# Altium footprint library Connectors.PcbLib: 80 footprints (part 2 of 5)
Each footprint in its own frame and in the unit in brackets; x right, y up, seen from the top. Pads: shape width x height; smd on the part's side, far side on the other; paste and mask are expansions set on the pad; w line width, h text height; cw(c..) or ccw(c..) is an arc to the next point about the centre after c.
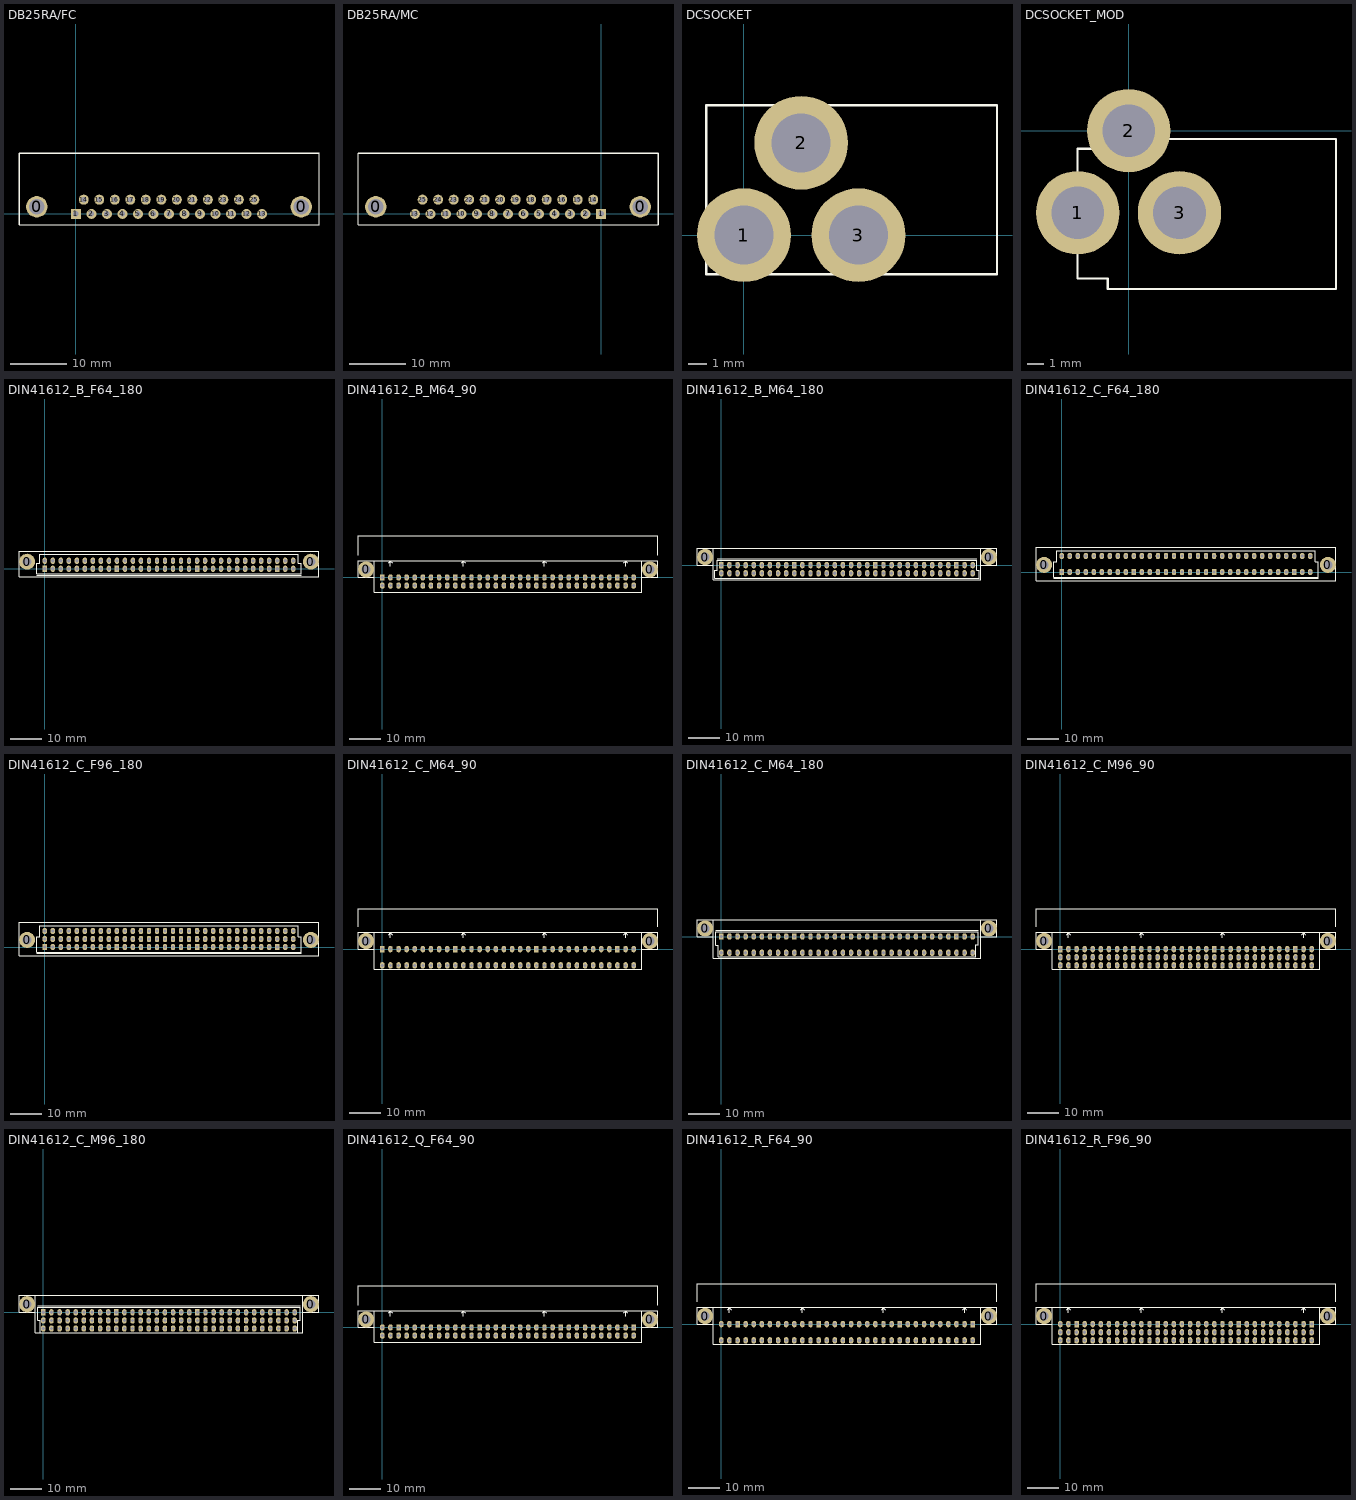
[diagram p1: the footprints below, top view; thin cyan lines are the x and y axes]

## DB25RA/FC [mil]
pads (27):
  round 150 hole 110: 0(-275,50) 0(1583,50)
  rect 70x70 hole 38: 1(0,0)
  round 70 hole 38: 2(109,0) 3(218,0) 4(327,0) 5(436,0) 6(545,0) 7(654,0) 8(763,0) 9(872,0) 10(981,0) 11(1090,0) 12(1199,0) 13(1308,0) 14(55,100) 15(164,100) 16(273,100) 17(382,100) 18(491,100) 19(600,100) 20(709,100) 21(818,100) 22(927,100) 23(1036,100) 24(1145,100) 25(1254,100)
TopOverlay:
  lines w8: -400,-75 1708,-75 1708,425
  lines w10: -400,-75 -400,425 1708,425

## DB25RA/MC [mil]
pads (27):
  round 150 hole 110: 0(-1583,50) 0(275,50)
  rect 70x70 hole 38: 1(0,0)
  round 70 hole 38: 2(-109,0) 3(-218,0) 4(-327,0) 5(-436,0) 6(-545,0) 7(-654,0) 8(-763,0) 9(-872,0) 10(-981,0) 11(-1090,0) 12(-1199,0) 13(-1308,0) 14(-55,100) 15(-164,100) 16(-273,100) 17(-382,100) 18(-491,100) 19(-600,100) 20(-709,100) 21(-818,100) 22(-927,100) 23(-1036,100) 24(-1145,100) 25(-1254,100)
TopOverlay:
  lines w8: -1708,425 -1708,-75 400,-75
  lines w10: -1708,425 400,425 400,-75

## DCSOCKET [mm]
pads (3):
  round 5.08 hole 3.2: 1(0,0) 2(3.1,5) 3(6.2,0)
TopOverlay:
  lines w0.127: -2.048,-2.112 13.7,-2.112 13.7,7.032 -2.048,7.032 -2.048,-2.112

## DCSOCKET_MOD [mm] "DCSOCKET with footprint adjusted relative to the pads"
pads (3):
  round 5.08 hole 3.2: 1(-3.1,-5) 2(0,0) 3(3.1,-5)
TopOverlay:
  lines w0.127: -2.59,-1.1 -1.278,-1.1 ; -2.57,-1.1 -3.118,-1.1 -3.118,-9 -1.27,-9 ; -1.268,-9.01 -1.268,-9.644 12.63,-9.644 12.63,-0.5 -1.268,-0.5 ; -1.268,-1.12 -1.268,-0.518

## DIN41612_B_F64_180 [mm]
pads (66):
  round 5.08 hole 2.794: 0(-5.63,2.24) 0(84.37,2.24)
  rect 1.397x2 hole 1: 1a(0,0) 10a(22.86,0) 20a(48.26,0) 30a(73.66,0)
  oval 1.397x2 hole 1: 1b(0,2.54) 2a(2.54,0) 2b(2.54,2.54) 3a(5.08,0) 3b(5.08,2.54) 4a(7.62,0) 4b(7.62,2.54) 5a(10.16,0) 5b(10.16,2.54) 6a(12.7,0) 6b(12.7,2.54) 7a(15.24,0) 7b(15.24,2.54) 8a(17.78,0) 8b(17.78,2.54) 9a(20.32,0) 9b(20.32,2.54) 10b(22.86,2.54) 11a(25.4,0) 11b(25.4,2.54) 12a(27.94,0) 12b(27.94,2.54) 13a(30.48,0) 13b(30.48,2.54) 14a(33.02,0) 14b(33.02,2.54) 15a(35.56,0) 15b(35.56,2.54) 16a(38.1,0) 16b(38.1,2.54) 17a(40.64,0) 17b(40.64,2.54) 18a(43.18,0) 18b(43.18,2.54) 19a(45.72,0) 19b(45.72,2.54) 20b(48.26,2.54) 21a(50.8,0) 21b(50.8,2.54) 22a(53.34,0) 22b(53.34,2.54) 23a(55.88,0) 23b(55.88,2.54) 24a(58.42,0) 24b(58.42,2.54) 25a(60.96,0) 25b(60.96,2.54) 26a(63.5,0) 26b(63.5,2.54) 27a(66.04,0) 27b(66.04,2.54) 28a(68.58,0) 28b(68.58,2.54) 29a(71.12,0) 29b(71.12,2.54) 30b(73.66,2.54) 31a(76.2,0) 31b(76.2,2.54) 32a(78.74,0) 32b(78.74,2.54)
TopOverlay:
  lines w0.254: -2.54,-2.032 81.28,-2.032 ; -8.128,-2.54 -8.128,5.563 86.868,5.563 86.868,-2.54 -8.128,-2.54 ; -2.54,-1.651 -2.54,1.778 -1.524,1.778 -1.524,4.572 80.264,4.572 80.264,1.778 81.28,1.778 81.28,-1.651 -2.54,-1.651

## DIN41612_B_M64_90 [mm]
pads (66):
  round 5.08 hole 2.794: 0(-5.08,2.54) 0(83.82,2.54)
  rect 1.397x2 hole 1: 1a(0,0) 10a(22.86,0) 20a(48.26,0) 30a(73.66,0)
  oval 1.397x2 hole 1: 1b(0,-2.54) 2a(2.54,0) 2b(2.54,-2.54) 3a(5.08,0) 3b(5.08,-2.54) 4a(7.62,0) 4b(7.62,-2.54) 5a(10.16,0) 5b(10.16,-2.54) 6a(12.7,0) 6b(12.7,-2.54) 7a(15.24,0) 7b(15.24,-2.54) 8a(17.78,0) 8b(17.78,-2.54) 9a(20.32,0) 9b(20.32,-2.54) 10b(22.86,-2.54) 11a(25.4,0) 11b(25.4,-2.54) 12a(27.94,0) 12b(27.94,-2.54) 13a(30.48,0) 13b(30.48,-2.54) 14a(33.02,0) 14b(33.02,-2.54) 15a(35.56,0) 15b(35.56,-2.54) 16a(38.1,0) 16b(38.1,-2.54) 17a(40.64,0) 17b(40.64,-2.54) 18a(43.18,0) 18b(43.18,-2.54) 19a(45.72,0) 19b(45.72,-2.54) 20b(48.26,-2.54) 21a(50.8,0) 21b(50.8,-2.54) 22a(53.34,0) 22b(53.34,-2.54) 23a(55.88,0) 23b(55.88,-2.54) 24a(58.42,0) 24b(58.42,-2.54) 25a(60.96,0) 25b(60.96,-2.54) 26a(63.5,0) 26b(63.5,-2.54) 27a(66.04,0) 27b(66.04,-2.54) 28a(68.58,0) 28b(68.58,-2.54) 29a(71.12,0) 29b(71.12,-2.54) 30b(73.66,-2.54) 31a(76.2,0) 31b(76.2,-2.54) 32a(78.74,0) 32b(78.74,-2.54)
TopOverlay:
  lines w0.254: -7.62,7 -7.62,13 86.36,13 86.36,7 ; -2.54,1.778 -2.54,-4.572 81.28,-4.572 81.28,0 ; 2.032,4.572 2.54,5.08 ; 2.54,3.556 2.54,5.08 ; 3.048,4.572 2.54,5.08 ; 24.892,4.572 25.4,5.08 ; 25.4,3.556 25.4,5.08 ; 25.908,4.572 25.4,5.08 ; 50.292,4.572 50.8,5.08 ; 50.8,3.556 50.8,5.08 ; 51.308,4.572 50.8,5.08 ; 75.692,4.572 76.2,5.08 ; 76.2,3.556 76.2,5.08 ; 76.708,4.572 76.2,5.08 ; -2.54,5.3 -2.54,0 -7.62,0 -7.62,5.3 -2.54,5.3 ; -2.54,5.3 81.28,5.3 ; 81.28,0 81.28,5.3 ; 81.28,0 86.36,0 86.36,5.3 81.28,5.3

## DIN41612_B_M64_180 [mm]
pads (66):
  round 5.08 hole 2.794: 0(-5.08,2.54) 0(83.82,2.54)
  rect 1.397x2 hole 1: 1a(0,0) 10a(22.86,0) 20a(48.26,0) 30a(73.66,0)
  oval 1.397x2 hole 1: 1b(0,-2.54) 2a(2.54,0) 2b(2.54,-2.54) 3a(5.08,0) 3b(5.08,-2.54) 4a(7.62,0) 4b(7.62,-2.54) 5a(10.16,0) 5b(10.16,-2.54) 6a(12.7,0) 6b(12.7,-2.54) 7a(15.24,0) 7b(15.24,-2.54) 8a(17.78,0) 8b(17.78,-2.54) 9a(20.32,0) 9b(20.32,-2.54) 10b(22.86,-2.54) 11a(25.4,0) 11b(25.4,-2.54) 12a(27.94,0) 12b(27.94,-2.54) 13a(30.48,0) 13b(30.48,-2.54) 14a(33.02,0) 14b(33.02,-2.54) 15a(35.56,0) 15b(35.56,-2.54) 16a(38.1,0) 16b(38.1,-2.54) 17a(40.64,0) 17b(40.64,-2.54) 18a(43.18,0) 18b(43.18,-2.54) 19a(45.72,0) 19b(45.72,-2.54) 20b(48.26,-2.54) 21a(50.8,0) 21b(50.8,-2.54) 22a(53.34,0) 22b(53.34,-2.54) 23a(55.88,0) 23b(55.88,-2.54) 24a(58.42,0) 24b(58.42,-2.54) 25a(60.96,0) 25b(60.96,-2.54) 26a(63.5,0) 26b(63.5,-2.54) 27a(66.04,0) 27b(66.04,-2.54) 28a(68.58,0) 28b(68.58,-2.54) 29a(71.12,0) 29b(71.12,-2.54) 30b(73.66,-2.54) 31a(76.2,0) 31b(76.2,-2.54) 32a(78.74,0) 32b(78.74,-2.54)
TopOverlay:
  lines w0.254: -2.54,1.778 -2.54,-4.572 81.28,-4.572 81.28,0 ; -1.27,2.032 80.01,2.032 ; -2.54,5.3 -2.54,0 -7.62,0 -7.62,5.3 -2.54,5.3 ; -2.54,5.3 81.28,5.3 ; 81.28,0 81.28,5.3 ; 81.28,0 86.36,0 86.36,5.3 81.28,5.3 ; -2.032,-4.064 -2.032,-1.524 -1.27,-1.524 -1.27,1.524 14.732,1.524 29.718,1.524 79.502,1.524 80.01,1.524 80.01,-1.524 80.772,-1.524 80.772,-4.064 29.718,-4.064 14.986,-4.064 -2.032,-4.064

## DIN41612_C_F64_180 [mm]
pads (66):
  round 5.08 hole 2.794: 0(-5.63,2.24) 0(84.37,2.24)
  rect 1.397x2 hole 1: 1a(0,0) 10a(22.86,0) 20a(48.26,0) 30a(73.66,0)
  oval 1.397x2 hole 1: 1c(0,5.08) 2a(2.54,0) 2c(2.54,5.08) 3a(5.08,0) 3c(5.08,5.08) 4a(7.62,0) 4c(7.62,5.08) 5a(10.16,0) 5c(10.16,5.08) 6a(12.7,0) 6c(12.7,5.08) 7a(15.24,0) 7c(15.24,5.08) 8a(17.78,0) 8c(17.78,5.08) 9a(20.32,0) 9c(20.32,5.08) 10c(22.86,5.08) 11a(25.4,0) 11c(25.4,5.08) 12a(27.94,0) 12c(27.94,5.08) 13a(30.48,0) 13c(30.48,5.08) 14a(33.02,0) 14c(33.02,5.08) 15a(35.56,0) 15c(35.56,5.08) 16a(38.1,0) 16c(38.1,5.08) 17a(40.64,0) 17c(40.64,5.08) 18a(43.18,0) 18c(43.18,5.08) 19a(45.72,0) 19c(45.72,5.08) 20c(48.26,5.08) 21a(50.8,0) 21c(50.8,5.08) 22a(53.34,0) 22c(53.34,5.08) 23a(55.88,0) 23c(55.88,5.08) 24a(58.42,0) 24c(58.42,5.08) 25a(60.96,0) 25c(60.96,5.08) 26a(63.5,0) 26c(63.5,5.08) 27a(66.04,0) 27c(66.04,5.08) 28a(68.58,0) 28c(68.58,5.08) 29a(71.12,0) 29c(71.12,5.08) 30c(73.66,5.08) 31a(76.2,0) 31c(76.2,5.08) 32a(78.74,0) 32c(78.74,5.08)
TopOverlay:
  lines w0.254: -2.54,-2.032 81.28,-2.032 ; -8.128,-2.794 -8.128,7.874 86.868,7.874 86.868,-2.794 -8.128,-2.794 ; -2.54,-1.651 -2.54,3.302 -1.651,3.302 -1.651,6.731 80.391,6.731 80.391,3.302 81.28,3.302 81.28,-1.651 -2.54,-1.651

## DIN41612_C_F96_180 [mm]
pads (98):
  round 5.08 hole 2.794: 0(-5.63,2.24) 0(84.37,2.24)
  rect 1.397x2 hole 1: 1a(0,0) 10a(22.86,0) 20a(48.26,0) 30a(73.66,0)
  oval 1.397x2 hole 1: 1b(0,2.54) 1c(0,5.08) 2a(2.54,0) 2b(2.54,2.54) 2c(2.54,5.08) 3a(5.08,0) 3b(5.08,2.54) 3c(5.08,5.08) 4a(7.62,0) 4b(7.62,2.54) 4c(7.62,5.08) 5a(10.16,0) 5b(10.16,2.54) 5c(10.16,5.08) 6a(12.7,0) 6b(12.7,2.54) 6c(12.7,5.08) 7a(15.24,0) 7b(15.24,2.54) 7c(15.24,5.08) 8a(17.78,0) 8b(17.78,2.54) 8c(17.78,5.08) 9a(20.32,0) 9b(20.32,2.54) 9c(20.32,5.08) 10b(22.86,2.54) 10c(22.86,5.08) 11a(25.4,0) 11b(25.4,2.54) 11c(25.4,5.08) 12a(27.94,0) 12b(27.94,2.54) 12c(27.94,5.08) 13a(30.48,0) 13b(30.48,2.54) 13c(30.48,5.08) 14a(33.02,0) 14b(33.02,2.54) 14c(33.02,5.08) 15a(35.56,0) 15b(35.56,2.54) 15c(35.56,5.08) 16a(38.1,0) 16b(38.1,2.54) 16c(38.1,5.08) 17a(40.64,0) 17b(40.64,2.54) 17c(40.64,5.08) 18a(43.18,0) 18b(43.18,2.54) 18c(43.18,5.08) 19a(45.72,0) 19b(45.72,2.54) 19c(45.72,5.08) 20b(48.26,2.54) 20c(48.26,5.08) 21a(50.8,0) 21b(50.8,2.54) 21c(50.8,5.08) 22a(53.34,0) 22b(53.34,2.54) 22c(53.34,5.08) 23a(55.88,0) 23b(55.88,2.54) 23c(55.88,5.08) 24a(58.42,0) 24b(58.42,2.54) 24c(58.42,5.08) 25a(60.96,0) 25b(60.96,2.54) 25c(60.96,5.08) 26a(63.5,0) 26b(63.5,2.54) 26c(63.5,5.08) 27a(66.04,0) 27b(66.04,2.54) 27c(66.04,5.08) 28a(68.58,0) 28b(68.58,2.54) 28c(68.58,5.08) 29a(71.12,0) 29b(71.12,2.54) 29c(71.12,5.08) 30b(73.66,2.54) 30c(73.66,5.08) 31a(76.2,0) 31b(76.2,2.54) 31c(76.2,5.08) 32a(78.74,0) 32b(78.74,2.54) 32c(78.74,5.08)
TopOverlay:
  lines w0.254: -2.54,-2.032 81.28,-2.032 ; -8.128,-2.794 86.868,-2.794 86.868,7.874 -8.128,7.874 -8.128,-2.794 ; -2.54,-1.651 81.28,-1.651 81.28,3.302 80.391,3.302 80.391,6.731 -1.651,6.731 -1.651,3.302 -2.54,3.302 -2.54,-1.651

## DIN41612_C_M64_90 [mm]
pads (66):
  round 5.08 hole 2.794: 0(-5.08,2.54) 0(83.82,2.54)
  rect 1.397x2 hole 1: 1a(0,0) 10a(22.86,0) 20a(48.26,0) 30a(73.66,0)
  oval 1.397x2 hole 1: 1c(0,-5.08) 2a(2.54,0) 2c(2.54,-5.08) 3a(5.08,0) 3c(5.08,-5.08) 4a(7.62,0) 4c(7.62,-5.08) 5a(10.16,0) 5c(10.16,-5.08) 6a(12.7,0) 6c(12.7,-5.08) 7a(15.24,0) 7c(15.24,-5.08) 8a(17.78,0) 8c(17.78,-5.08) 9a(20.32,0) 9c(20.32,-5.08) 10c(22.86,-5.08) 11a(25.4,0) 11c(25.4,-5.08) 12a(27.94,0) 12c(27.94,-5.08) 13a(30.48,0) 13c(30.48,-5.08) 14a(33.02,0) 14c(33.02,-5.08) 15a(35.56,0) 15c(35.56,-5.08) 16a(38.1,0) 16c(38.1,-5.08) 17a(40.64,0) 17c(40.64,-5.08) 18a(43.18,0) 18c(43.18,-5.08) 19a(45.72,0) 19c(45.72,-5.08) 20c(48.26,-5.08) 21a(50.8,0) 21c(50.8,-5.08) 22a(53.34,0) 22c(53.34,-5.08) 23a(55.88,0) 23c(55.88,-5.08) 24a(58.42,0) 24c(58.42,-5.08) 25a(60.96,0) 25c(60.96,-5.08) 26a(63.5,0) 26c(63.5,-5.08) 27a(66.04,0) 27c(66.04,-5.08) 28a(68.58,0) 28c(68.58,-5.08) 29a(71.12,0) 29c(71.12,-5.08) 30c(73.66,-5.08) 31a(76.2,0) 31c(76.2,-5.08) 32a(78.74,0) 32c(78.74,-5.08)
TopOverlay:
  lines w0.254: -7.62,7 -7.62,12.7 86.36,12.7 86.36,7 ; 2.032,4.572 2.54,5.08 ; 2.54,3.556 2.54,5.08 ; 3.048,4.572 2.54,5.08 ; 24.892,4.572 25.4,5.08 ; 25.4,3.556 25.4,5.08 ; 25.908,4.572 25.4,5.08 ; 50.292,4.572 50.8,5.08 ; 50.8,3.556 50.8,5.08 ; 51.308,4.572 50.8,5.08 ; 75.692,4.572 76.2,5.08 ; 76.2,3.556 76.2,5.08 ; 76.708,4.572 76.2,5.08 ; -2.54,0 -2.54,-6.35 81.28,-6.35 81.28,0 ; -2.54,0 -2.54,5.3 ; -2.54,0 -7.62,0 -7.62,5.3 -5.08,5.3 -2.54,5.3 ; -2.54,5.3 81.28,5.3 ; 81.28,0 81.28,5.3 ; 81.28,0 86.36,0 86.36,5.3 83.82,5.3 81.28,5.3

## DIN41612_C_M64_180 [mm]
pads (66):
  round 5.08 hole 2.794: 0(-5.08,2.54) 0(83.82,2.54)
  rect 1.397x2 hole 1: 1a(0,0) 10a(22.86,0) 20a(48.26,0) 30a(73.66,0)
  oval 1.397x2 hole 1: 1c(0,-5.08) 2a(2.54,0) 2c(2.54,-5.08) 3a(5.08,0) 3c(5.08,-5.08) 4a(7.62,0) 4c(7.62,-5.08) 5a(10.16,0) 5c(10.16,-5.08) 6a(12.7,0) 6c(12.7,-5.08) 7a(15.24,0) 7c(15.24,-5.08) 8a(17.78,0) 8c(17.78,-5.08) 9a(20.32,0) 9c(20.32,-5.08) 10c(22.86,-5.08) 11a(25.4,0) 11c(25.4,-5.08) 12a(27.94,0) 12c(27.94,-5.08) 13a(30.48,0) 13c(30.48,-5.08) 14a(33.02,0) 14c(33.02,-5.08) 15a(35.56,0) 15c(35.56,-5.08) 16a(38.1,0) 16c(38.1,-5.08) 17a(40.64,0) 17c(40.64,-5.08) 18a(43.18,0) 18c(43.18,-5.08) 19a(45.72,0) 19c(45.72,-5.08) 20c(48.26,-5.08) 21a(50.8,0) 21c(50.8,-5.08) 22a(53.34,0) 22c(53.34,-5.08) 23a(55.88,0) 23c(55.88,-5.08) 24a(58.42,0) 24c(58.42,-5.08) 25a(60.96,0) 25c(60.96,-5.08) 26a(63.5,0) 26c(63.5,-5.08) 27a(66.04,0) 27c(66.04,-5.08) 28a(68.58,0) 28c(68.58,-5.08) 29a(71.12,0) 29c(71.12,-5.08) 30c(73.66,-5.08) 31a(76.2,0) 31c(76.2,-5.08) 32a(78.74,0) 32c(78.74,-5.08)
TopOverlay:
  lines w0.254: -1.778,2.032 80.518,2.032 ; -2.54,0 -7.62,0 -7.62,5.3 -5.08,5.3 -2.54,5.3 ; -2.54,0 -2.54,5.3 ; -2.54,0 -2.54,-6.858 81.28,-6.858 81.28,0 ; -2.54,5.3 81.28,5.3 ; 81.28,0 86.36,0 86.36,5.3 83.82,5.3 81.28,5.3 ; 81.28,0 81.28,5.3 ; -1.778,-2.794 -1.778,1.524 80.518,1.524 80.518,1.27 80.518,-2.54 79.756,-2.54 79.756,-6.35 -1.016,-6.35 -1.016,-2.794 -1.778,-2.794

## DIN41612_C_M96_90 [mm]
pads (98):
  round 5.08 hole 2.794: 0(-5.08,2.54) 0(83.82,2.54)
  rect 1.397x2 hole 1: 1a(0,0) 10a(22.86,0) 20a(48.26,0) 30a(73.66,0)
  oval 1.397x2 hole 1: 1b(0,-2.54) 1c(0,-5.08) 2a(2.54,0) 2b(2.54,-2.54) 2c(2.54,-5.08) 3a(5.08,0) 3b(5.08,-2.54) 3c(5.08,-5.08) 4a(7.62,0) 4b(7.62,-2.54) 4c(7.62,-5.08) 5a(10.16,0) 5b(10.16,-2.54) 5c(10.16,-5.08) 6a(12.7,0) 6b(12.7,-2.54) 6c(12.7,-5.08) 7a(15.24,0) 7b(15.24,-2.54) 7c(15.24,-5.08) 8a(17.78,0) 8b(17.78,-2.54) 8c(17.78,-5.08) 9a(20.32,0) 9b(20.32,-2.54) 9c(20.32,-5.08) 10b(22.86,-2.54) 10c(22.86,-5.08) 11a(25.4,0) 11b(25.4,-2.54) 11c(25.4,-5.08) 12a(27.94,0) 12b(27.94,-2.54) 12c(27.94,-5.08) 13a(30.48,0) 13b(30.48,-2.54) 13c(30.48,-5.08) 14a(33.02,0) 14b(33.02,-2.54) 14c(33.02,-5.08) 15a(35.56,0) 15b(35.56,-2.54) 15c(35.56,-5.08) 16a(38.1,0) 16b(38.1,-2.54) 16c(38.1,-5.08) 17a(40.64,0) 17b(40.64,-2.54) 17c(40.64,-5.08) 18a(43.18,0) 18b(43.18,-2.54) 18c(43.18,-5.08) 19a(45.72,0) 19b(45.72,-2.54) 19c(45.72,-5.08) 20b(48.26,-2.54) 20c(48.26,-5.08) 21a(50.8,0) 21b(50.8,-2.54) 21c(50.8,-5.08) 22a(53.34,0) 22b(53.34,-2.54) 22c(53.34,-5.08) 23a(55.88,0) 23b(55.88,-2.54) 23c(55.88,-5.08) 24a(58.42,0) 24b(58.42,-2.54) 24c(58.42,-5.08) 25a(60.96,0) 25b(60.96,-2.54) 25c(60.96,-5.08) 26a(63.5,0) 26b(63.5,-2.54) 26c(63.5,-5.08) 27a(66.04,0) 27b(66.04,-2.54) 27c(66.04,-5.08) 28a(68.58,0) 28b(68.58,-2.54) 28c(68.58,-5.08) 29a(71.12,0) 29b(71.12,-2.54) 29c(71.12,-5.08) 30b(73.66,-2.54) 30c(73.66,-5.08) 31a(76.2,0) 31b(76.2,-2.54) 31c(76.2,-5.08) 32a(78.74,0) 32b(78.74,-2.54) 32c(78.74,-5.08)
TopOverlay:
  lines w0.254: -7.62,7 -7.62,12.7 86.36,12.7 86.36,7 ; 2.032,4.572 2.54,5.08 ; 2.54,3.556 2.54,5.08 ; 3.048,4.572 2.54,5.08 ; 24.892,4.572 25.4,5.08 ; 25.4,3.556 25.4,5.08 ; 25.908,4.572 25.4,5.08 ; 50.292,4.572 50.8,5.08 ; 50.8,3.556 50.8,5.08 ; 51.308,4.572 50.8,5.08 ; 75.692,4.572 76.2,5.08 ; 76.2,3.556 76.2,5.08 ; 76.708,4.572 76.2,5.08 ; -2.54,0 -7.62,0 -7.62,5.3 -5.08,5.3 -2.54,5.3 ; -2.54,0 -2.54,5.3 ; -2.54,0 -2.54,-6.35 81.28,-6.35 81.28,0 ; -2.54,5.3 81.28,5.3 ; 81.28,0 86.36,0 86.36,5.3 83.82,5.3 81.28,5.3 ; 81.28,0 81.28,5.3

## DIN41612_C_M96_180 [mm]
pads (98):
  round 5.08 hole 2.794: 0(-5.08,2.54) 0(83.82,2.54)
  rect 1.397x2 hole 1: 1a(0,0) 10a(22.86,0) 20a(48.26,0) 30a(73.66,0)
  oval 1.397x2 hole 1: 1b(0,-2.54) 1c(0,-5.08) 2a(2.54,0) 2b(2.54,-2.54) 2c(2.54,-5.08) 3a(5.08,0) 3b(5.08,-2.54) 3c(5.08,-5.08) 4a(7.62,0) 4b(7.62,-2.54) 4c(7.62,-5.08) 5a(10.16,0) 5b(10.16,-2.54) 5c(10.16,-5.08) 6a(12.7,0) 6b(12.7,-2.54) 6c(12.7,-5.08) 7a(15.24,0) 7b(15.24,-2.54) 7c(15.24,-5.08) 8a(17.78,0) 8b(17.78,-2.54) 8c(17.78,-5.08) 9a(20.32,0) 9b(20.32,-2.54) 9c(20.32,-5.08) 10b(22.86,-2.54) 10c(22.86,-5.08) 11a(25.4,0) 11b(25.4,-2.54) 11c(25.4,-5.08) 12a(27.94,0) 12b(27.94,-2.54) 12c(27.94,-5.08) 13a(30.48,0) 13b(30.48,-2.54) 13c(30.48,-5.08) 14a(33.02,0) 14b(33.02,-2.54) 14c(33.02,-5.08) 15a(35.56,0) 15b(35.56,-2.54) 15c(35.56,-5.08) 16a(38.1,0) 16b(38.1,-2.54) 16c(38.1,-5.08) 17a(40.64,0) 17b(40.64,-2.54) 17c(40.64,-5.08) 18a(43.18,0) 18b(43.18,-2.54) 18c(43.18,-5.08) 19a(45.72,0) 19b(45.72,-2.54) 19c(45.72,-5.08) 20b(48.26,-2.54) 20c(48.26,-5.08) 21a(50.8,0) 21b(50.8,-2.54) 21c(50.8,-5.08) 22a(53.34,0) 22b(53.34,-2.54) 22c(53.34,-5.08) 23a(55.88,0) 23b(55.88,-2.54) 23c(55.88,-5.08) 24a(58.42,0) 24b(58.42,-2.54) 24c(58.42,-5.08) 25a(60.96,0) 25b(60.96,-2.54) 25c(60.96,-5.08) 26a(63.5,0) 26b(63.5,-2.54) 26c(63.5,-5.08) 27a(66.04,0) 27b(66.04,-2.54) 27c(66.04,-5.08) 28a(68.58,0) 28b(68.58,-2.54) 28c(68.58,-5.08) 29a(71.12,0) 29b(71.12,-2.54) 29c(71.12,-5.08) 30b(73.66,-2.54) 30c(73.66,-5.08) 31a(76.2,0) 31b(76.2,-2.54) 31c(76.2,-5.08) 32a(78.74,0) 32b(78.74,-2.54) 32c(78.74,-5.08)
TopOverlay:
  lines w0.254: -1.778,2.032 80.518,2.032 ; -1.016,-6.35 -1.016,-2.54 -1.778,-2.54 -1.778,1.524 80.518,1.524 80.518,-2.54 79.756,-2.54 79.756,-6.35 ; -2.54,0 -7.62,0 -7.62,5.3 -5.08,5.3 -2.54,5.3 ; -2.54,0 -2.54,5.3 ; -2.54,0 -2.54,-6.35 81.28,-6.35 81.28,0 ; -2.54,5.3 81.28,5.3 ; 81.28,0 86.36,0 86.36,5.3 83.82,5.3 81.28,5.3 ; 81.28,0 81.28,5.3

## DIN41612_Q_F64_90 [mm]
pads (66):
  round 5.08 hole 2.794: 0(-5.08,2.54) 0(83.82,2.54)
  rect 1.397x2 hole 1: 1a(78.74,0) 10a(55.88,0) 20a(30.48,0) 30a(5.08,0)
  oval 1.397x2 hole 1: 1b(78.74,-2.54) 2a(76.2,0) 2b(76.2,-2.54) 3a(73.66,0) 3b(73.66,-2.54) 4a(71.12,0) 4b(71.12,-2.54) 5a(68.58,0) 5b(68.58,-2.54) 6a(66.04,0) 6b(66.04,-2.54) 7a(63.5,0) 7b(63.5,-2.54) 8a(60.96,0) 8b(60.96,-2.54) 9a(58.42,0) 9b(58.42,-2.54) 10b(55.88,-2.54) 11a(53.34,0) 11b(53.34,-2.54) 12a(50.8,0) 12b(50.8,-2.54) 13a(48.26,0) 13b(48.26,-2.54) 14a(45.72,0) 14b(45.72,-2.54) 15a(43.18,0) 15b(43.18,-2.54) 16a(40.64,0) 16b(40.64,-2.54) 17a(38.1,0) 17b(38.1,-2.54) 18a(35.56,0) 18b(35.56,-2.54) 19a(33.02,0) 19b(33.02,-2.54) 20b(30.48,-2.54) 21a(27.94,0) 21b(27.94,-2.54) 22a(25.4,0) 22b(25.4,-2.54) 23a(22.86,0) 23b(22.86,-2.54) 24a(20.32,0) 24b(20.32,-2.54) 25a(17.78,0) 25b(17.78,-2.54) 26a(15.24,0) 26b(15.24,-2.54) 27a(12.7,0) 27b(12.7,-2.54) 28a(10.16,0) 28b(10.16,-2.54) 29a(7.62,0) 29b(7.62,-2.54) 30b(5.08,-2.54) 31a(2.54,0) 31b(2.54,-2.54) 32a(0,0) 32b(0,-2.54)
TopOverlay:
  lines w0.254: -7.62,7 -7.62,13 86.36,13 86.36,7 ; -2.54,1.778 -2.54,-4.572 81.28,-4.572 81.28,0 ; 2.032,4.572 2.54,5.08 ; 2.54,3.556 2.54,5.08 ; 3.048,4.572 2.54,5.08 ; 24.892,4.572 25.4,5.08 ; 25.4,3.556 25.4,5.08 ; 25.908,4.572 25.4,5.08 ; 50.292,4.572 50.8,5.08 ; 50.8,3.556 50.8,5.08 ; 51.308,4.572 50.8,5.08 ; 75.692,4.572 76.2,5.08 ; 76.2,3.556 76.2,5.08 ; 76.708,4.572 76.2,5.08 ; -2.54,5.3 81.28,5.3 ; -2.54,5.3 -7.62,5.3 -7.62,0 -2.54,0 -2.54,5.3 ; 81.28,0 86.36,0 86.36,5.3 81.28,5.3 ; 81.28,0 81.28,5.3

## DIN41612_R_F64_90 [mm]
pads (66):
  round 5.08 hole 2.794: 0(-5.08,2.54) 0(83.82,2.54)
  rect 1.397x2 hole 1: 1a(78.74,0) 10a(55.88,0) 20a(30.48,0) 30a(5.08,0)
  oval 1.397x2 hole 1: 1c(78.74,-5.08) 2a(76.2,0) 2c(76.2,-5.08) 3a(73.66,0) 3c(73.66,-5.08) 4a(71.12,0) 4c(71.12,-5.08) 5a(68.58,0) 5c(68.58,-5.08) 6a(66.04,0) 6c(66.04,-5.08) 7a(63.5,0) 7c(63.5,-5.08) 8a(60.96,0) 8c(60.96,-5.08) 9a(58.42,0) 9c(58.42,-5.08) 10c(55.88,-5.08) 11a(53.34,0) 11c(53.34,-5.08) 12a(50.8,0) 12c(50.8,-5.08) 13a(48.26,0) 13c(48.26,-5.08) 14a(45.72,0) 14c(45.72,-5.08) 15a(43.18,0) 15c(43.18,-5.08) 16a(40.64,0) 16c(40.64,-5.08) 17a(38.1,0) 17c(38.1,-5.08) 18a(35.56,0) 18c(35.56,-5.08) 19a(33.02,0) 19c(33.02,-5.08) 20c(30.48,-5.08) 21a(27.94,0) 21c(27.94,-5.08) 22a(25.4,0) 22c(25.4,-5.08) 23a(22.86,0) 23c(22.86,-5.08) 24a(20.32,0) 24c(20.32,-5.08) 25a(17.78,0) 25c(17.78,-5.08) 26a(15.24,0) 26c(15.24,-5.08) 27a(12.7,0) 27c(12.7,-5.08) 28a(10.16,0) 28c(10.16,-5.08) 29a(7.62,0) 29c(7.62,-5.08) 30c(5.08,-5.08) 31a(2.54,0) 31c(2.54,-5.08) 32a(0,0) 32c(0,-5.08)
TopOverlay:
  lines w0.254: -7.62,7 -7.62,12.7 86.36,12.7 86.36,7 ; 2.032,4.572 2.54,5.08 ; 2.54,3.556 2.54,5.08 ; 3.048,4.572 2.54,5.08 ; 24.892,4.572 25.4,5.08 ; 25.4,3.556 25.4,5.08 ; 25.908,4.572 25.4,5.08 ; 50.292,4.572 50.8,5.08 ; 50.8,3.556 50.8,5.08 ; 51.308,4.572 50.8,5.08 ; 75.692,4.572 76.2,5.08 ; 76.2,3.556 76.2,5.08 ; 76.708,4.572 76.2,5.08 ; -2.54,0 -7.62,0 -7.62,5.3 -5.08,5.3 -2.54,5.3 ; -2.54,0 -2.54,5.3 ; -2.54,0 -2.54,-6.35 81.28,-6.35 81.28,0 ; -2.54,5.3 81.28,5.3 ; 81.28,0 86.36,0 86.36,5.3 83.82,5.3 81.28,5.3 ; 81.28,0 81.28,5.3

## DIN41612_R_F96_90 [mm]
pads (98):
  round 5.08 hole 2.794: 0(-5.08,2.54) 0(83.82,2.54)
  rect 1.397x2 hole 1: 1a(78.74,0) 10a(55.88,0) 20a(30.48,0) 30a(5.08,0)
  oval 1.397x2 hole 1: 1b(78.74,-2.54) 1c(78.74,-5.08) 2a(76.2,0) 2b(76.2,-2.54) 2c(76.2,-5.08) 3a(73.66,0) 3b(73.66,-2.54) 3c(73.66,-5.08) 4a(71.12,0) 4b(71.12,-2.54) 4c(71.12,-5.08) 5a(68.58,0) 5b(68.58,-2.54) 5c(68.58,-5.08) 6a(66.04,0) 6b(66.04,-2.54) 6c(66.04,-5.08) 7a(63.5,0) 7b(63.5,-2.54) 7c(63.5,-5.08) 8a(60.96,0) 8b(60.96,-2.54) 8c(60.96,-5.08) 9a(58.42,0) 9b(58.42,-2.54) 9c(58.42,-5.08) 10b(55.88,-2.54) 10c(55.88,-5.08) 11a(53.34,0) 11b(53.34,-2.54) 11c(53.34,-5.08) 12a(50.8,0) 12b(50.8,-2.54) 12c(50.8,-5.08) 13a(48.26,0) 13b(48.26,-2.54) 13c(48.26,-5.08) 14a(45.72,0) 14b(45.72,-2.54) 14c(45.72,-5.08) 15a(43.18,0) 15b(43.18,-2.54) 15c(43.18,-5.08) 16a(40.64,0) 16b(40.64,-2.54) 16c(40.64,-5.08) 17a(38.1,0) 17b(38.1,-2.54) 17c(38.1,-5.08) 18a(35.56,0) 18b(35.56,-2.54) 18c(35.56,-5.08) 19a(33.02,0) 19b(33.02,-2.54) 19c(33.02,-5.08) 20b(30.48,-2.54) 20c(30.48,-5.08) 21a(27.94,0) 21b(27.94,-2.54) 21c(27.94,-5.08) 22a(25.4,0) 22b(25.4,-2.54) 22c(25.4,-5.08) 23a(22.86,0) 23b(22.86,-2.54) 23c(22.86,-5.08) 24a(20.32,0) 24b(20.32,-2.54) 24c(20.32,-5.08) 25a(17.78,0) 25b(17.78,-2.54) 25c(17.78,-5.08) 26a(15.24,0) 26b(15.24,-2.54) 26c(15.24,-5.08) 27a(12.7,0) 27b(12.7,-2.54) 27c(12.7,-5.08) 28a(10.16,0) 28b(10.16,-2.54) 28c(10.16,-5.08) 29a(7.62,0) 29b(7.62,-2.54) 29c(7.62,-5.08) 30b(5.08,-2.54) 30c(5.08,-5.08) 31a(2.54,0) 31b(2.54,-2.54) 31c(2.54,-5.08) 32a(0,0) 32b(0,-2.54) 32c(0,-5.08)
TopOverlay:
  lines w0.254: -7.62,7 -7.62,12.7 86.36,12.7 86.36,7 ; 2.032,4.572 2.54,5.08 ; 2.54,3.556 2.54,5.08 ; 3.048,4.572 2.54,5.08 ; 24.892,4.572 25.4,5.08 ; 25.4,3.556 25.4,5.08 ; 25.908,4.572 25.4,5.08 ; 50.292,4.572 50.8,5.08 ; 50.8,3.556 50.8,5.08 ; 51.308,4.572 50.8,5.08 ; 75.692,4.572 76.2,5.08 ; 76.2,3.556 76.2,5.08 ; 76.708,4.572 76.2,5.08 ; -2.54,0 -7.62,0 -7.62,5.3 -5.08,5.3 -2.54,5.3 ; -2.54,0 -2.54,5.3 ; -2.54,0 -2.54,-6.35 81.28,-6.35 81.28,0 ; -2.54,5.3 81.28,5.3 ; 81.28,0 86.36,0 86.36,5.3 83.82,5.3 81.28,5.3 ; 81.28,0 81.28,5.3